# Altium schematic symbol library TP4056.SchLib: 1 symbol
Pins are listed as number, name and electrical type; pins without a type are passive.

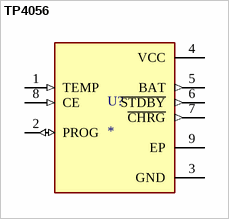
[diagram p0: symbol TP4056]

## TP4056
designator U?
MF: others; MP: TP4056; SnapEDA_Link: https://www.snapeda.com/parts/TP4056/Others/view-part/?ref=snap; Package: None; Value: *; Check_prices: https://www.snapeda.com/parts/TP4056/Others/view-part/?ref=eda
footprint SOP127P600X175-9N
pins: 1 TEMP (in), 2 PROG (io), 3 GND (power), 4 VCC (power), 5 BAT (out), 6 ~{STDBY} (out), 7 ~{CHRG} (out), 8 CE (in), 9 EP